# EAGLE library part CY7C1019CV33 (library sram)
128K x 8 Static RAM 10ns Source: Cypress CYP05780611.pdf
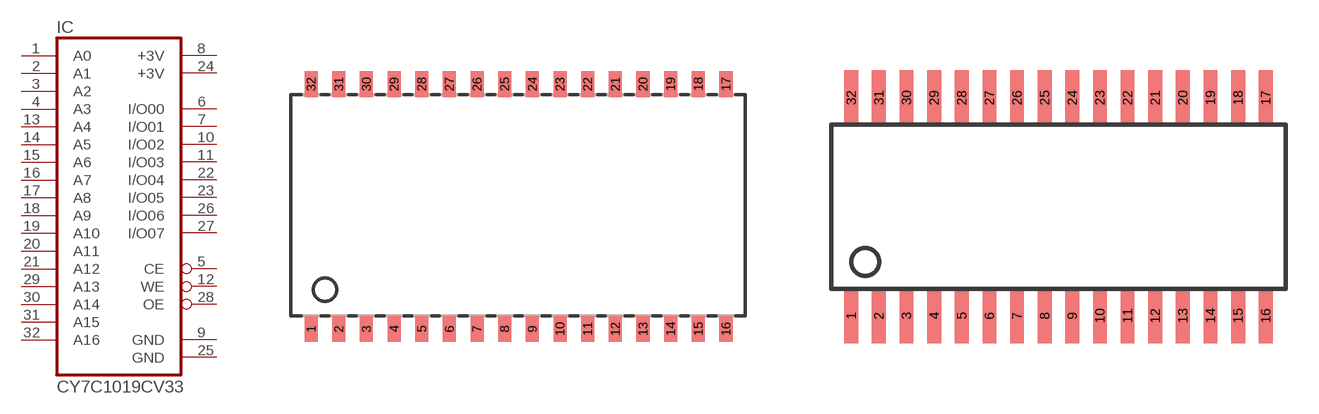
[diagram p0: symbol with the pads of TSOPII-32; footprints TSOPII-32, SOJ32-400]

Designator prefix IC

## CY7C1019CV33ZXC, CY7C1019CV33-10ZXC, CY7C1019CV33-12ZXC, CY7C1019CV33-15ZXC  [TSOPII-32]
1  A0  in
2  A1  in
3  A2  in
4  A3  in
5  CE
6  I/O00
7  I/O01
8  +3V  pwr
9  GND  pwr
10  I/O02
11  I/O03
12  WE  in
13  A4  in
14  A5  in
15  A6  in
16  A7  in
17  A8  in
18  A9  in
19  A10  in
20  A11  in
21  A12  in
22  I/O04
23  I/O05
24  +3V  pwr
25  GND  pwr
26  I/O06
27  I/O07
28  OE  in
29  A13  in
30  A14  in
31  A15  in
32  A16  in

## CY7C1019CV33-10VC, CY7C1019CV33-12VC, CY7C1019CV33-15VC  [SOJ32-400]
Pads as for TSOPII-32

## CY7C1019CV33-12BVXI  [VFBGA48]
A2  OE  in
A3  A2  in
A4  A6  in
A5  A7  in
B1  I/O00
B3  A1  in
B4  A5  in
B5  CE
B6  I/O07
C1  I/O01
C3  A0  in
C4  A4  in
C6  I/O06
D1  GND  pwr
D4  A3  in
D6  +3V  pwr
E1  +3V  pwr
E6  GND  pwr
F1  I/O02
F3  A14  in
F4  A11  in
F5  I/O04
F6  I/O05
G1  I/O03
G3  A15  in
G4  A12  in
G5  WE  in
G6  A8  in
H2  A10  in
H3  A16  in
H4  A13  in
H5  A9  in

## Footprint TSOPII-32 (pad centres in mm)
32-pin TSOP II (51-85095) Source: Cypress CYP05780611.pdf
smd 0.6 x 1.2: 1 -9.525,-5.627; 2 -8.255,-5.627; 3 -6.985,-5.627; 4 -5.715,-5.627; 5 -4.445,-5.627; 6 -3.175,-5.627; 7 -1.905,-5.627; 8 -0.635,-5.627; 9 0.635,-5.627; 10 1.905,-5.627; 11 3.175,-5.627; 12 4.445,-5.627; 13 5.715,-5.627; 14 6.985,-5.627; 15 8.255,-5.627; 16 9.525,-5.627; 17 9.525,5.629; 18 8.255,5.629; 19 6.985,5.629; 20 5.715,5.629; 21 4.445,5.629; 22 3.175,5.629; 23 1.905,5.629; 24 0.635,5.629; 25 -0.635,5.629; 26 -1.905,5.629; 27 -3.175,5.629; 28 -4.445,5.629; 29 -5.715,5.629; 30 -6.985,5.629; 31 -8.255,5.629; 32 -9.525,5.629

## Footprint SOJ32-400 (pad centres in mm)
32-pin (400-Mil) Molded SOJ (51-85033) Source:
smd 0.635 x 2.54: 1 -9.525,-5.016; 2 -8.255,-5.016; 3 -6.985,-5.016; 4 -5.715,-5.016; 5 -4.445,-5.016; 6 -3.175,-5.016; 7 -1.905,-5.016; 8 -0.635,-5.016; 9 0.635,-5.016; 10 1.905,-5.016; 11 3.175,-5.016; 12 4.445,-5.016; 13 5.715,-5.016; 14 6.985,-5.016; 15 8.255,-5.016; 16 9.525,-5.016; 17 9.525,5.016; 18 8.255,5.016; 19 6.985,5.016; 20 5.715,5.016; 21 4.445,5.016; 22 3.175,5.016; 23 1.905,5.016; 24 0.635,5.016; 25 -0.635,5.016; 26 -1.905,5.016; 27 -3.175,5.016; 28 -4.445,5.016; 29 -5.715,5.016; 30 -6.985,5.016; 31 -8.255,5.016; 32 -9.525,5.016

## Footprint VFBGA48 (pad centres in mm)
48-ball VFBGA (6 x 8 x 1 mm) (51-85150) Source: Cypress CYP05780611.pdf
smd 0.45 x 0.45: A1 -1.875,2.625; A2 -1.125,2.625; A3 -0.375,2.625; A4 0.375,2.625; A5 1.125,2.625; A6 1.875,2.625; B1 -1.875,1.875; B2 -1.125,1.875; B3 -0.375,1.875; B4 0.375,1.875; B5 1.125,1.875; B6 1.875,1.875; C1 -1.875,1.125; C2 -1.125,1.125; C3 -0.375,1.125; C4 0.375,1.125; C5 1.125,1.125; C6 1.875,1.125; D1 -1.875,0.375; D2 -1.125,0.375; D3 -0.375,0.375; D4 0.375,0.375; D5 1.125,0.375; D6 1.875,0.375; E1 -1.875,-0.375; E2 -1.125,-0.375; E3 -0.375,-0.375; E4 0.375,-0.375; E5 1.125,-0.375; E6 1.875,-0.375; F1 -1.875,-1.125; F2 -1.125,-1.125; F3 -0.375,-1.125; F4 0.375,-1.125; F5 1.125,-1.125; F6 1.875,-1.125; G1 -1.875,-1.875; G2 -1.125,-1.875; G3 -0.375,-1.875; G4 0.375,-1.875; G5 1.125,-1.875; G6 1.875,-1.875; H1 -1.875,-2.625; H2 -1.125,-2.625; H3 -0.375,-2.625; H4 0.375,-2.625; H5 1.125,-2.625; H6 1.875,-2.625